# Altium footprint library DataConverters_PcbLib.PcbLib: 6 footprints
Each footprint in its own frame and in the unit in brackets; x right, y up, seen from the top. Pads: shape width x height; smd on the part's side, far side on the other; paste and mask are expansions set on the pad; w line width, h text height; cw(c..) or ccw(c..) is an arc to the next point about the centre after c.
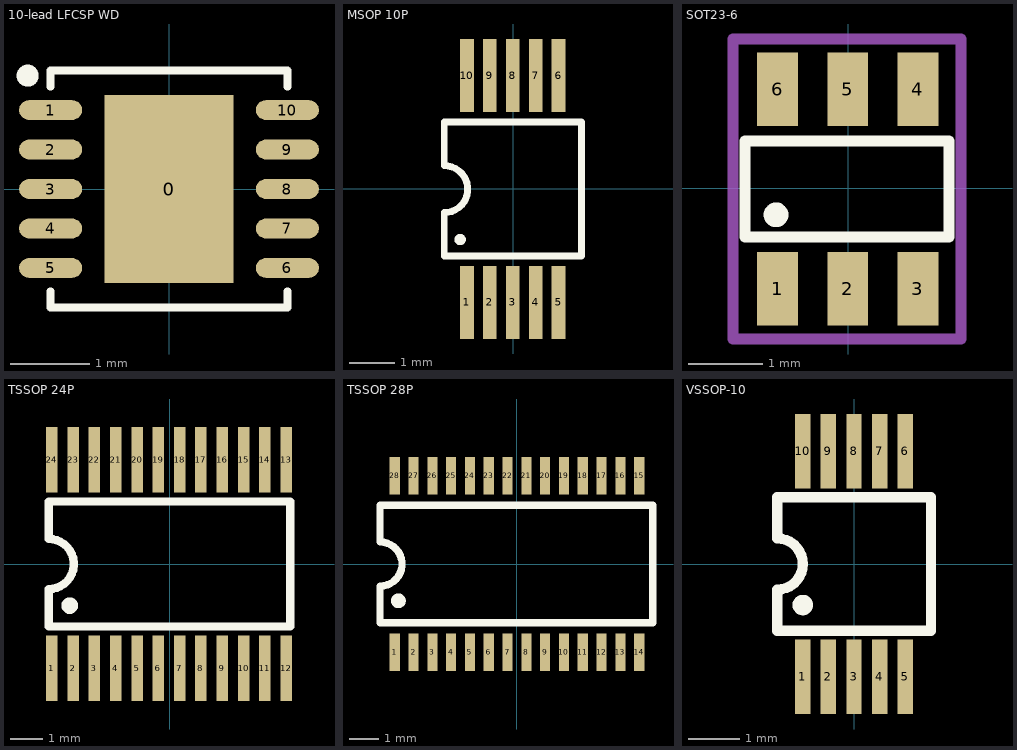
[diagram p0: the footprints below, top view; thin cyan lines are the x and y axes]

## 10-lead LFCSP WD [mm]
pads (11):
  rect 1.64x2.38 smd: 0(0,0)
  oval 0.8x0.25 smd: 1(-1.5,1) 2(-1.5,0.5) 3(-1.5,0) 4(-1.5,-0.5) 5(-1.5,-1) 6(1.5,-1) 7(1.5,-0.5) 8(1.5,0) 9(1.5,0.5) 10(1.5,1)
Top Overlay:
  circle w0.254: c-1.791,1.435 r0.013
  lines w0.1: -1.499,-1.295 -1.499,-1.499 1.499,-1.499 1.499,-1.295 ; -1.499,1.295 -1.499,1.499 1.499,1.499 1.499,1.295

## MSOP 10P [mm] "3mm X 3mm (0.5mm)"
pads (10):
  rect 0.3x1.6 smd: 1(-1.016,-2.476) 2(-0.516,-2.476) 3(-0.016,-2.476) 4(0.484,-2.476) 5(0.984,-2.476) 6(0.984,2.476) 7(0.484,2.476) 8(-0.016,2.476) 9(-0.516,2.476) 10(-1.016,2.476)
Top Overlay:
  circle w0.127: c-1.165,-1.105 r0.06
  lines w0.15: -1.511,-1.46 1.486,-1.46 1.486,1.46 -1.511,1.46 -1.511,0.508 cw(c-1.511,-0.004) -1.511,-0.516 -1.511,-1.46
3D body "User Library-MSOP-10-1.step": height 1, standoff -0.05, extent -1.513,-2.577 1.487,2.45

## SOT23-6 [mm]
height 1.8
pads (6):
  rect 0.55x1 smd: 1(-0.96,-1.36) 2(-0.01,-1.36) 3(0.94,-1.36) 4(0.94,1.34) 5(-0.01,1.34) 6(-0.96,1.34)
Top Overlay:
  circle w0.254: c-0.98,-0.36 r0.04
  lines w0.15: -1.4,-0.66 1.36,-0.66 1.36,0.64 -1.4,0.64 -1.4,-0.66
Mechanical 15:
  lines w0.15: -1.56,-2.04 1.52,-2.04 1.52,2.02 -1.56,2.02 -1.56,-2.04
3D body "User Library-SOT23-6-2.step": height 1.45, standoff 0, extent -1.466,-1.41 1.434,1.39

## TSSOP 24P [mm]
pads (24):
  rect 0.35x2 smd: 1(-3.594,-3.175) 2(-2.944,-3.175) 3(-2.294,-3.175) 4(-1.644,-3.175) 5(-0.994,-3.175) 6(-0.344,-3.175) 7(0.306,-3.175) 8(0.956,-3.175) 9(1.606,-3.175) 10(2.256,-3.175) 11(2.906,-3.175) 12(3.556,-3.175) 13(3.556,3.175) 14(2.906,3.175) 15(2.256,3.175) 16(1.606,3.175) 17(0.956,3.175) 18(0.306,3.175) 19(-0.344,3.175) 20(-0.994,3.175) 21(-1.644,3.175) 22(-2.294,3.175) 23(-2.944,3.175) 24(-3.594,3.175)
Top Overlay:
  circle w0.254: c-3.048,-1.27 r0.127
  lines w0.254: -3.683,-1.905 -3.683,-0.762 ccw(c-3.683,0) -3.683,0.762 -3.683,1.905 3.683,1.905 3.683,-1.905 -3.683,-1.905
3D body "User Library-User Library-TSSOP-24.STEP": height 1.2, standoff 0, extent -3.97,-3.32 3.93,3.23

## TSSOP 28P [mm] "4.4mm 糴"
pads (28):
  rect 0.35x1.3 smd: 1(-4.225,-3.048) 2(-3.575,-3.048) 3(-2.925,-3.048) 4(-2.275,-3.048) 5(-1.625,-3.048) 6(-0.975,-3.048) 7(-0.325,-3.048) 8(0.325,-3.048) 9(0.975,-3.048) 10(1.625,-3.048) 11(2.275,-3.048) 12(2.925,-3.048) 13(3.575,-3.048) 14(4.225,-3.048) 15(4.225,3.052) 16(3.575,3.052) 17(2.925,3.052) 18(2.275,3.052) 19(1.625,3.052) 20(0.975,3.052) 21(0.325,3.052) 22(-0.325,3.052) 23(-0.975,3.052) 24(-1.625,3.052) 25(-2.275,3.052) 26(-2.925,3.052) 27(-3.575,3.052) 28(-4.225,3.052)
Top Overlay:
  circle w0.254: c-4.098,-1.27 r0.127
  lines w0.254: -4.733,-2.032 -4.733,-0.762 ccw(c-4.733,0) -4.733,0.762 -4.733,2.032 4.699,2.032 4.699,-2.032 -4.733,-2.032
3D body "User Library-TSSOP-28.STEP": height 1.2, standoff 0, extent -4.85,-3.175 4.85,3.225

## VSSOP-10 [mm]
pads (10):
  rect 0.3x1.45 smd mask+0.05: 1(-1,-2.2) 2(-0.5,-2.2) 3(0,-2.2) 4(0.5,-2.2) 5(1,-2.2) 6(1,2.2) 7(0.5,2.2) 8(0,2.2) 9(-0.5,2.2) 10(-1,2.2)
Top Overlay:
  circle w0.2: c-1,-0.8 r0.1
  lines w0.2: -1.5,-1.3 -1.5,-0.5 ccw(c-1.5,0) -1.5,0.5 -1.5,1.3 1.5,1.3 1.5,-1.3 -1.5,-1.3
3D body "User Library-DGQ (S-PDSO-G10).STEP": height 1.1, standoff 0, extent -1.55,-2.518 1.55,2.518